# EAGLE library part THAT2252 (library that-corp)
RMS-Level Detector
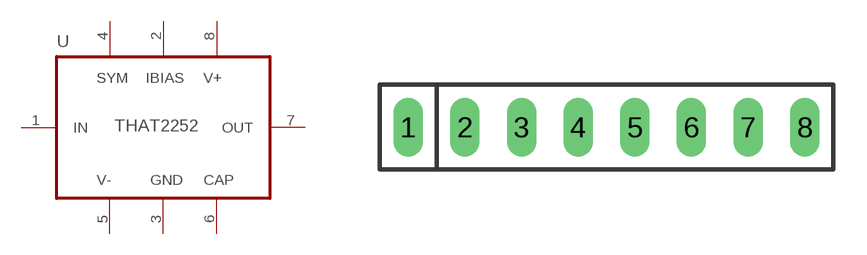
[diagram p4: symbol with the pads of SIP8; footprint SIP8]

Designator prefix U

## THAT2252  [SIP8]
1  IN  in
2  IBIAS  out
3  GND  pwr
4  SYM  pas
5  V-  pwr
6  CAP  pas
7  OUT  out
8  V+  pwr

## Footprint SIP8 (pad centres in mm)
SIP-9 9 Pin SIP IC
drill 0.813 long: 1 -10.16,0; 2 -7.62,0; 3 -5.08,0; 4 -2.54,0; 5 0,0; 6 2.54,0; 7 5.08,0; 8 7.62,0